# Altium schematic symbol library PSA2-6+.SchLib: 1 symbol
Pins are listed as number, name and electrical type; pins without a type are passive.

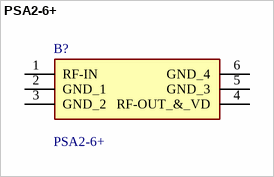
[diagram p0: symbol PSA2-6+]

## PSA2-6+
designator B?
RF Amplifier SMT Low Noise Amplifier, DC - 7 GHz, 50?; Manufacturer_Name: Mini-Circuits; Geometry.Height: 1mm; Mouser Part Number: 139-PSA2-6+; Mouser Price/Stock: https://www.mouser.co.uk/ProductDetail/Mini-Circuits/PSA2-6%2b?qs=ZcfC38r4PouoCLCeNyH1xw%3D%3D; Manufacturer_Part_Number: PSA2-6+; Datasheet Link: https://www.mouser.cn/datasheet/2/1030/PSA2_6_2b-3421589.pdf
footprint SOT65P215X100-6N
pins: 1 RF-IN, 2 GND_1, 3 GND_2, 4 RF-OUT_&_VD, 5 GND_3, 6 GND_4